# EAGLE library part SCC2230 (library m_ic-signal)
SCC2000 Series Combined Gyro Sensor and Accelerometer Combined X-axis or Z-axis Gyroscope & 3-axis Accelerometer Single axis X or Z-axis gyroscope with ±125°/s or ±300°/s measurement range 3-axis accelerometer with ±2g or ±6g measurement range Extensive self diagnostics features SPI digital interface User selectable low pass filter via SPI −40°C…+125°C operating range 3.0V…3.6V supply voltage Size 12.1 x 15.0 x 4.35 mm (w x l x h) Product platform qualified according to AEC-Q100 standard and compliant to ISO26262 standard Also gyro only version available Benefits: Complete product platform for acceleration and angular rate detection in all three sensing axis directions. With the newly introduced Z axis gyroscope enables implementation of a 6DOF sensor solution on one application PCB Excellent bias stability, low noise level and good vibration robustness Field proven reliability and high performance in very demanding applications SCC2000 series is targeted at applications demanding high stability with tough environmental requirements. Typical applications include: Inertial Measurement Units (IMUs) for highly demanding environments Platform stabilization and control Machine control systems Electronic Stability Control (ESC) Hill Start Assist (HSA) Roll over detection Navigation systems Product Homepage: http://www.murata.com/en-global/products/sensor/gyro/scc2000
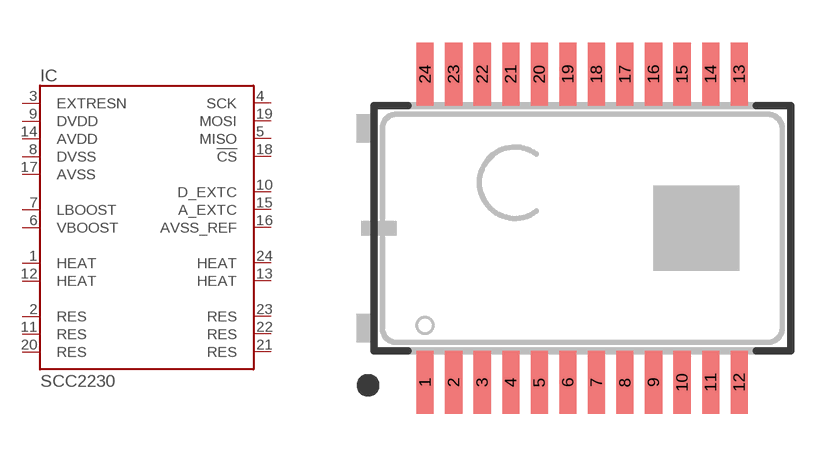
[diagram p9: symbol with the pads of SCC22XX; footprint SCC22XX]

Designator prefix IC

## SCC2230 (MANUF: Murata; PARTNUM: SCC2230-XXX)  [SCC22XX]
1  HEAT
2  RES
3  EXTRESN
4  SCK
5  MISO
6  VBOOST
7  LBOOST
8  DVSS
9  DVDD
10  D_EXTC
11  RES
12  HEAT
13  HEAT
14  AVDD
15  A_EXTC
16  AVSS_REF
17  AVSS
18  !CS
19  MOSI
20  RES
21  RES
22  RES
23  RES
24  HEAT

## Footprint SCC22XX (pad centres in mm)
Murata SCC22XX MEMS IC Created 2015-07-30, from SCC2230-E02 datasheet Doc.Nr. 82 1888 00 rev B0.
smd 0.6 x 2.2: 1 -5.5,-5.4; 2 -4.5,-5.4; 3 -3.5,-5.4; 4 -2.5,-5.4; 5 -1.5,-5.4; 6 -0.5,-5.4; 7 0.5,-5.4; 8 1.5,-5.4; 9 2.5,-5.4; 10 3.5,-5.4; 11 4.5,-5.4; 12 5.5,-5.4; 13 5.5,5.4; 14 4.5,5.4; 15 3.5,5.4; 16 2.5,5.4; 17 1.5,5.4; 18 0.5,5.4; 19 -0.5,5.4; 20 -1.5,5.4; 21 -2.5,5.4; 22 -3.5,5.4; 23 -4.5,5.4; 24 -5.5,5.4